# Altium footprint library 便携T12烙铁.PcbLib: 19 footprints (part 1 of 2)
Each footprint in its own frame and in the unit in brackets; x right, y up, seen from the top. Pads: shape width x height; smd on the part's side, far side on the other; paste and mask are expansions set on the pad; w line width, h text height; cw(c..) or ccw(c..) is an arc to the next point about the centre after c.
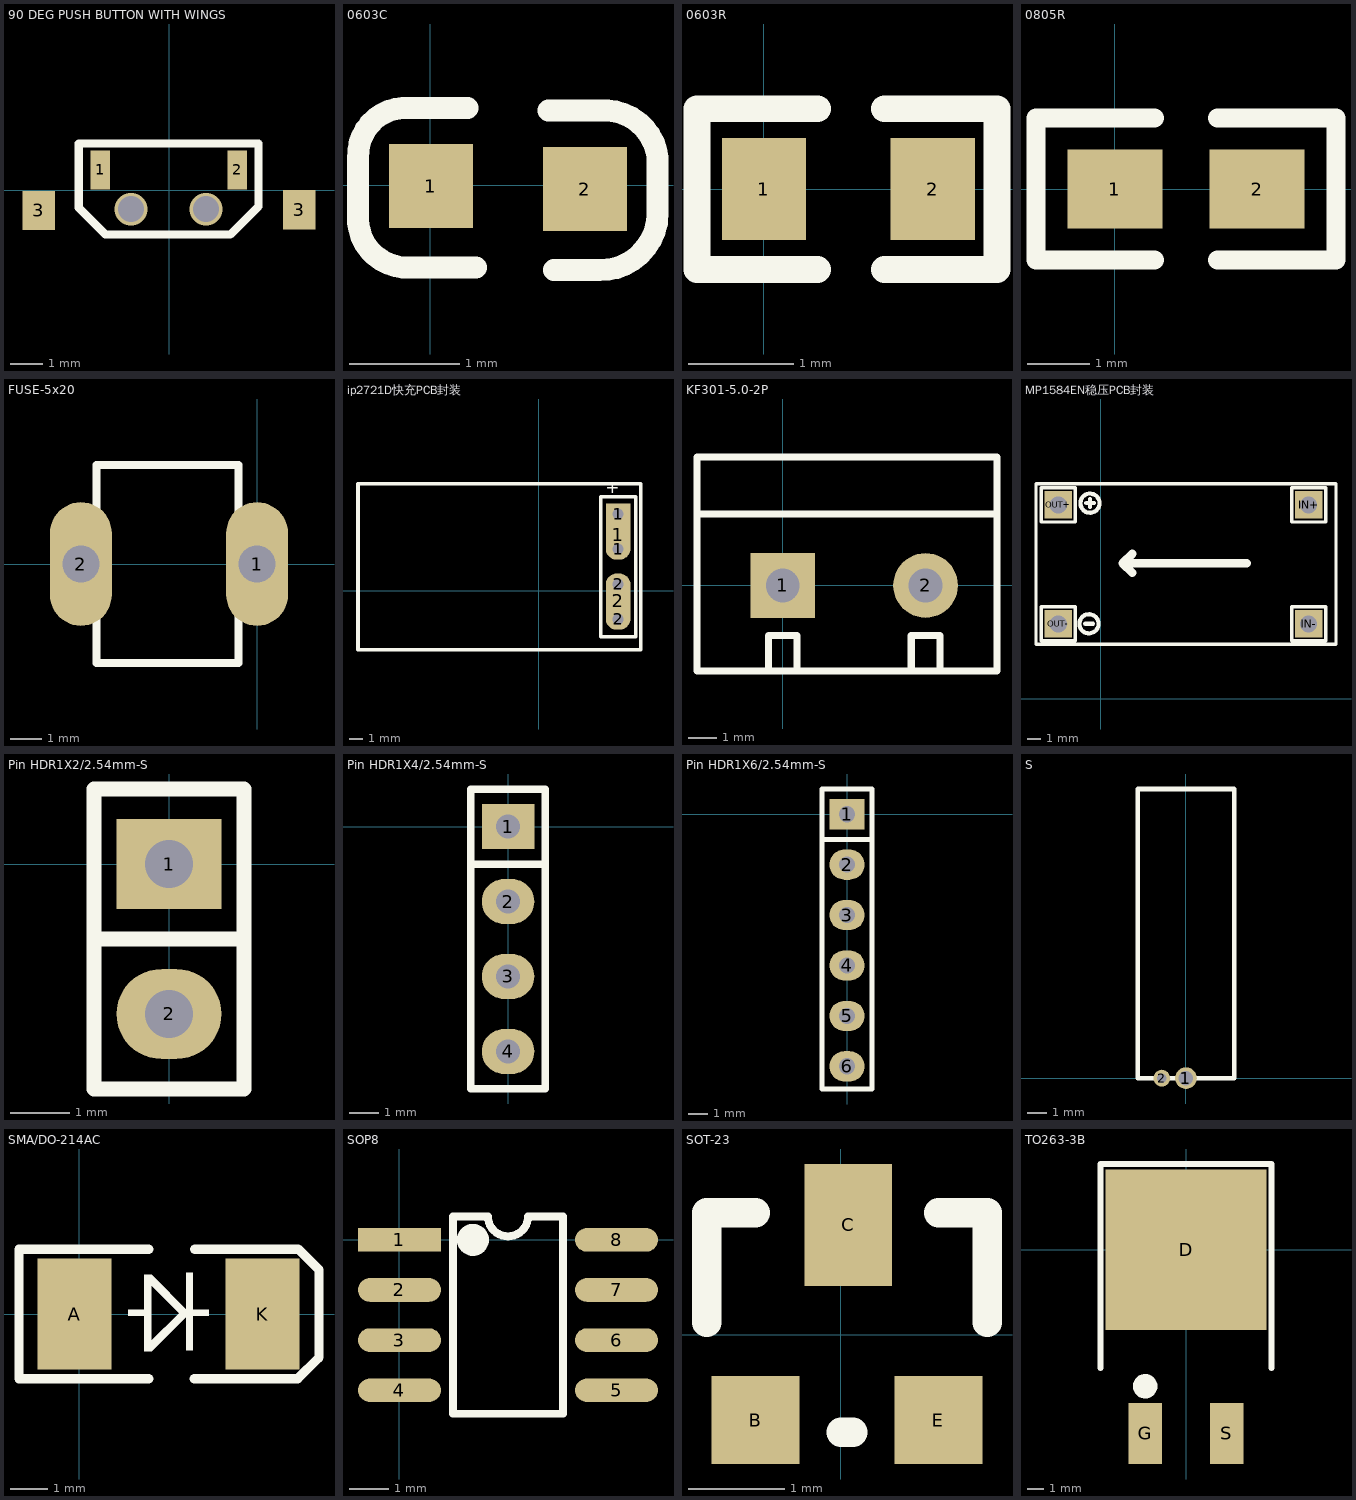
[diagram p0: the footprints below, top view; thin cyan lines are the x and y axes]

## 90 DEG PUSH BUTTON WITH WINGS [mm]
pads (4):
  rect 0.599x1.199 smd: 1(-2.106,0.62) 2(2.095,0.62)
  rect 1.001x1.201 smd: 3(-4.004,-0.62)
  rect 0.998x1.201 smd: 3(4.004,-0.603)
via 1.135,-0.58 diameter 1 hole 0.8
via -1.166,-0.58 diameter 1 hole 0.8
Top Overlay:
  lines w0.254: -2.774,1.4 -2.774,-0.538 -1.954,-1.358 1.884,-1.358 2.745,-0.5 2.745,1.431 -2.774,1.431

## 0603C [mil] "电容"
pads (2):
  rect 30x30 smd: 1(0.21,-0.35) 2(55.21,-1.35)
Top Overlay:
  lines w7.87: 13.21,27.65 -9.79,27.65 ccw(c-8.79,10.65) -25.79,9.65 -25.79,-10.35 ccw(c-8.29,-11.85) -9.79,-29.35 16.21,-29.35 ; 42.21,26.65 60.21,26.65 cw(c62.21,7.65) 81.21,9.65 81.21,-10.35 cw(c60.71,-9.85) 60.21,-30.35 44.21,-30.35
3D body "0603 SMD Capacitor.STEP": height 11.89, standoff 0, extent -1.49,-14.99 61.5,16.5

## 0603R [mm] "电阻"
pads (2):
  rect 0.8x0.965 smd: 1(0,0) 2(1.6,0)
Top Overlay:
  lines w0.254: 0.508,-0.762 -0.635,-0.762 -0.635,0.762 0.508,0.762 ; 1.143,-0.762 2.21,-0.762 2.21,0.762 1.143,0.762
3D body "RES0603.STEP": height 0.45, standoff 0, extent -0.038,-0.41 1.562,0.41

## 0805R [mil] "电阻"
pads (2):
  rect 60x50 smd: 1(0,0) 2(90,0)
Top Overlay:
  lines w12: 25,-45 -50,-45 -50,45 25,45 ; 65,-45 140,-45 140,45 65,45
3D body "RES0805.STEP": height 15, standoff -1.14, extent 1.26,-24.6 80,24.61

## FUSE-5x20 [mm] "保险丝夹子"
pads (2):
  oval 2x4 hole 1.2: 1(0,0) 2(-5.7,0)
Top Overlay:
  lines w0.254: -5.199,-3.2 -0.599,-3.2 -0.599,3.2 -5.199,3.2 -5.199,-3.2

## ip2721D快充PCB封装 [mil]
pads (6):
  oval 70x60 hole 32: 1(226.84,118.59) 2(226.84,-81.41) 2(226.84,18.59)
  rrect50% 70x110 all layers, no hole: 1(226.84,159.59)
  rect 70x60 hole 32: 1(226.84,218.59)
  rrect50% 70x130 all layers, no hole: 2(226.84,-28.41)
Top Overlay:
  lines w10: -515.25,-167.9 291.84,-167.9 291.84,304.54 -515.25,304.54 -515.25,-167.9 ; 176.84,-131.41 276.84,-131.41 276.84,268.59 176.84,268.59 176.84,-131.41
  text "+" at 231.75,266.1 h60
  text "-" at 240.75,-173.9 h100
3D body "1001-4.STEP": height 336.22, standoff -118.11, extent 176.84,-131.41 276.84,268.59

## KF301-5.0-2P [mm] "可拼接端子/6A"
pads (2):
  rect 2.3x2.3 hole 1.2: 1(0,0)
  round 2.3 hole 1.2: 2(5.08,0)
Top Overlay:
  lines w0.254: -3.048,2.54 7.62,2.54 ; -0.508,-3.048 -0.508,-1.778 0.508,-1.778 0.508,-3.048 ; 4.572,-3.048 4.572,-1.778 5.588,-1.778 5.588,-3.048 ; -3.048,-3.048 -3.048,4.572 7.62,4.572 7.62,-3.048 -3.048,-3.048
3D body "KF301-5.0.STEP": height 10.05, standoff -3.75, extent -2.997,-3.089 2.503,4.511
3D body "KF301-5.0.STEP": height 10.05, standoff -3.75, extent 2.003,-3.089 7.503,4.511

## MP1584EN稳压PCB封装 [mil]
pads (4):
  rect 80x80 hole 50: IN+(608,568) IN-(608,220) OUT+(-125,568) OUT-(-125,220)
Top Overlay:
  circle w12: c-32,573 r28
  circle w12: c-35,220 r28
  lines w10: -190,160 687.95,160 687.95,630 -190,630 -190,160 ; -175,170 -75,170 -75,270 -175,270 -175,170 ; -175,518 -75,518 -75,618 -175,618 -175,518 ; 558,170 658,170 658,270 558,270 558,170 ; 558,518 658,518 658,618 558,618 558,518
  lines w12: -46,220 -23,220 ; -43,573 -20,573 ; -32,562 -32,585
  lines w25: 92,369 64,397 ; 92,425 64,397 ; 427,397 64,397
3D body "1001-2.STEP": height 336.22, standoff -118.11, extent 558,518 658,718
3D body "1001-2.STEP": height 336.22, standoff -118.11, extent 558,70 658,270
3D body "1001-2.STEP": height 336.22, standoff -118.11, extent -175,518 -75,718
3D body "1001-2.STEP": height 336.22, standoff -118.11, extent -175,70 -75,270

## Pin HDR1X2/2.54mm-S [mil]
pads (2):
  rect 70x60 hole 32: 1(0,0)
  oval 70x60 hole 32: 2(0,-100)
Top Overlay:
  lines w10: -50,-50 50,-50 ; -50,-150 50,-150 50,50 -50,50 -50,-150
3D body "1001-2.STEP": height 336.22, standoff -118.11, extent -50,-150 50,50

## Pin HDR1X4/2.54mm-S [mil] "0.91 i2c oled"
pads (4):
  rect 70x60 hole 32: 1(0,0)
  oval 70x60 hole 32: 2(0,-100) 3(0,-200) 4(0,-300)
Top Overlay:
  lines w10: -50,-50 50,-50 ; -50,-350 -50,50 50,50 50,-350 -50,-350
3D body "1001-4.STEP": height 336.22, standoff -118.11, extent -49.99,-350 50.01,50

## Pin HDR1X6/2.54mm-S [mil] "下载接口"
pads (6):
  rect 70x60 hole 32: 1(0,0)
  oval 70x60 hole 32: 2(0,-100) 3(0,-200) 4(0,-300) 5(0,-400) 6(0,-500)
Top Overlay:
  lines w10: -50,-50 50,-50 ; -50,-545 -50,50 50,50 50,-545 -50,-545
3D body "1001-6.STEP": height 336.22, standoff -118.11, extent -50,-545 50,55

## S [mil] "震动开关SW180  建议SW18015"
pads (2):
  round 45 hole 30: 1(0,0)
  round 35 hole 20: 2(-50,0)
Top Overlay:
  lines w10: -99.95,-0.05 100.05,-0.05 100.05,599.95 -99.95,599.95 -99.95,-0.05
3D body "OSC-3x8-WI-A.STEP": height 119.29, standoff -102.36, extent -69.06,-5 49.06,395.73

## SMA/DO-214AC [mm] "塑封二极管"
pads (2):
  rect 2x3 smd: A(-0.127,0) K(4.953,0)
Top Overlay:
  region: 3.505,-0.051 3.505,0.127 3.023,0.127 3.023,-0.051
  region: 2.808,-0.091 2.961,0.062 1.956,1.067 1.803,0.914
  region: 1.778,-0.051 1.778,0.127 1.321,0.127 1.321,-0.051
  rectangle: 2.883,-0.991 3.073,1.118
  rectangle: 1.753,-1.016 1.956,1.067
  region: 2.962,-0.012 2.809,0.141 1.804,-0.864 1.957,-1.017
  lines w0.254: 1.873,-1.75 -1.627,-1.75 -1.627,1.75 1.873,1.75 ; 3.103,-1.753 3.105,-1.75 5.668,-1.75 5.899,-1.75 6.456,-1.194 6.477,-1.172 6.477,1.194 5.921,1.75 5.69,1.75 3.127,1.75 3.124,1.753
3D body "DO-214AC.STEP": height 2.4, standoff 0, extent 0.113,-1.35 4.713,1.35

## SOP8 [mm] "LM358G-S08-R"
pads (8):
  rect 2.1x0.6 smd: 1(0,0)
  oval 2.1x0.6 smd: 2(0,-1.27) 3(0,-2.54) 4(0,-3.81) 5(5.5,-3.81) 6(5.5,-2.54) 7(5.5,-1.27) 8(5.5,0)
Top Overlay:
  circle w0.5: c1.861,0 r0.155
  lines w0.2: 1.353,0.595 1.353,-4.405 4.147,-4.405 4.147,0.595
  lines w0.203: 1.353,0.595 2.242,0.595 ccw(c2.75,0.595) 2.75,0.087 ccw(c2.75,0.595) 3.258,0.595 4.147,0.595
3D body "SOP8.STEP": height 1.9, standoff 0, extent -0.209,-4.405 5.797,0.595

## SOT-23 [mil] "三极管"
pads (3):
  rect 36x36 smd: B(-35,-35) E(40,-35)
  rect 36x50 smd: C(3,45)
Top Overlay:
  lines w12: -55,5 -55,50 -35,50 ; 0,-40 5,-40 ; 40,50 60,50 60,5
3D body "SOT-23-3.STEP": height 47.24, standoff 0, extent -54.08,-48.11 60.09,62.12

## TO263-3B [mm] "P-MOS"
pads (3):
  rect 10x10 smd: D(0,0)
  rect 2.1x3.8 smd: G(-2.54,-11.45) S(2.54,-11.45)
Top Overlay:
  circle w0.762: c-2.54,-8.509 r0.381
  lines w0.381: -5.334,-7.366 -5.334,-5.588 -5.334,5.334 5.334,5.334 5.334,-5.588 5.334,-7.366
3D body "1.STEP": height 4.5, standoff 0, extent -4.92,-11.049 5.08,3.881